# Altium footprint library Resonator filter design.PcbLib: 13 footprints
Each footprint in its own frame and in the unit in brackets; x right, y up, seen from the top. Pads: shape width x height; smd on the part's side, far side on the other; paste and mask are expansions set on the pad; w line width, h text height; cw(c..) or ccw(c..) is an arc to the next point about the centre after c.
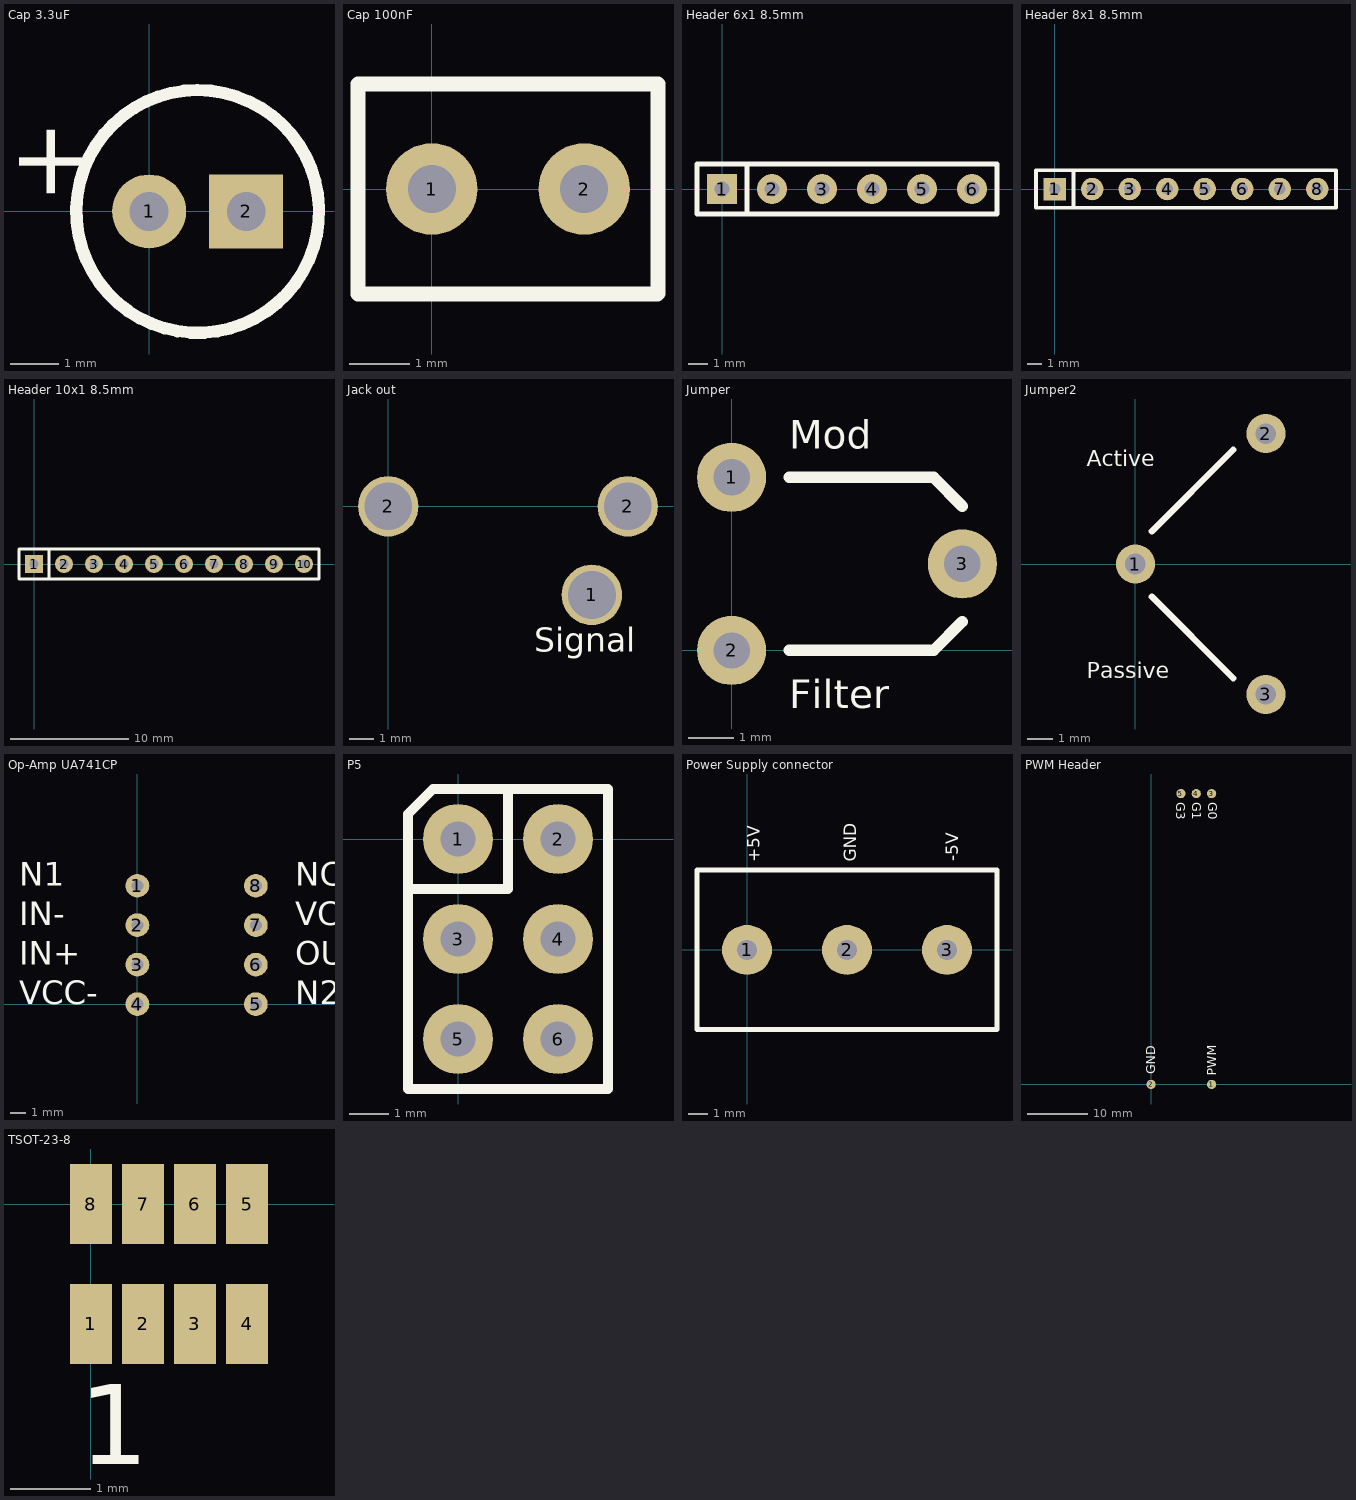
[diagram p0: the footprints below, top view; thin cyan lines are the x and y axes]

## Cap 3.3uF [mil]
pads (2):
  round 60 hole 31.5: 1(0,0)
  rect 60x60 hole 31.5: 2(78.74,0)
Top Overlay:
  lines w10: 137.77,2.34 cw(c39.37,0) 137.75,3.12
  text "+" at -105.51,74.8 h60

## Cap 100nF [mil]
pads (2):
  round 60 hole 31.5: 1(0,0) 2(100,0)
Top Overlay:
  lines w10: 148.03,-68.9 -48.43,-68.9 -48.43,0 -48.43,68.9 148.43,68.9 148.43,0 148.43,-68.5

## Header 6x1 8.5mm [mil] "Stackable 6 pin header"
pads (6):
  rect 60x60 hole 30: 1(0,0)
  round 60 hole 30: 2(100,0) 3(200,0) 4(300,0) 5(400,0) 6(500,0)
Top Overlay:
  lines w10: 50,-50 -50,-50 -50,0 -50,50 50,50 ; 50,-50 50,50 ; 50,-50 550,-50 550,50 50,50
3D body "SIL_Socket06.stp": height 334.65, standoff -584.65, extent -49.99,-49.99 550.01,50.01

## Header 8x1 8.5mm [mil] "Stackable 8 pin header"
pads (8):
  rect 60x60 hole 30: 1(0,0)
  round 60 hole 30: 2(100,0) 3(200,0) 4(300,0) 5(400,0) 6(500,0) 7(600,0) 8(700,0)
Top Overlay:
  lines w10: 50,-50 50,50 ; -50,-50 -50,50 750,50 750,-50 -50,-50
3D body "SIL_Socket08_.stp": height 334.65, standoff -584.65, extent -50,-49.99 750,50.01

## Header 10x1 8.5mm [mil] "Stackable 10 pin header"
pads (10):
  rect 60x60 hole 30: 1(0,0)
  round 60 hole 30: 2(100,0) 3(200,0) 4(300,0) 5(400,0) 6(500,0) 7(600,0) 8(700,0) 9(800,0) 10(900,0)
Top Overlay:
  lines w10: 50,-50 50,50 ; 50,-50 950,-50 950,50 50,50 ; 50,-50 -50,-50 -50,50 50,50
3D body "SIL_Socket10.stp": height 334.65, standoff -584.65, extent -50,-50 950,50

## Jack out [mm]
pads (3):
  round 2.524 hole 2: 1(8.5,-3.7) 2(0,0) 2(10,0)
Top Overlay:
  text "Signal" at 6.09,-6.08 h1

## Jumper [mil]
pads (3):
  round 60 hole 31.5: 1(0,150) 2(0,0) 3(200,75)
Top Overlay:
  lines w10: 50,0 175,0 200,25 ; 50,150 175,150 200,125
  text "Mod" at 50,175 h24.8
  text "Filter" at 50,-50 h24.8

## Jumper2 [mil]
pads (3):
  round 60 hole 31.5: 1(0,0) 2(200,200) 3(200,-200)
Top Overlay:
  lines w10: 25,-50 150,-175 ; 25,50 150,175
  text "Active" at -75,150 h24.8
  text "Passive" at -75,-175 h24.8

## Op-Amp UA741CP [mil]
pads (8):
  round 60 hole 30: 1(0,300) 2(0,200) 3(0,100) 4(0,0) 5(300,0) 6(300,100) 7(300,200) 8(300,300)
Top Overlay:
  text "N1" at -300,300 h60
  text "IN-" at -300,200 h60
  text "IN+" at -300,100 h60
  text "VCC-" at -300,0 h60
  text "N2" at 400,0 h60
  text "OUT" at 400,100 h60
  text "VCC+" at 400,200 h60
  text "NC" at 400,300 h60

## P5 [mil]
pads (6):
  round 70 hole 35.43: 1(0,0) 2(100,0) 3(0,-100) 4(100,-100) 5(0,-200) 6(100,-200)
Top Overlay:
  lines w10: -50,-50 50,-50 50,50 ; -50,-250 150,-250 150,50 -25,50 -50,25 -50,-250
3D body "ICSP.stp": height 484.65, standoff -105.84, extent -49.99,-249.99 150.01,50.01

## Power Supply connector [mm]
pads (3):
  round 2.54 hole 1: 1(0,0) 2(5.08,0) 3(10.16,0)
Top Overlay:
  lines w0.254: 12.69,-4.03 -2.54,-4.03 -2.54,0 -2.54,4.05 12.7,4.05 12.7,0 12.7,-4.02
  text "+5V" at 0.64,4.46 h0.63
  text "GND" at 5.54,4.48 h0.63
  text "-5V" at 10.74,4.51 h0.63

## PWM Header [mil]
pads (5):
  round 60 all layers, no hole: 1(393.7,0) 2(0,0) 3(393.7,1889.76) 4(293.7,1889.76) 5(193.7,1889.76)
Top Overlay:
  text "G0" at 370.08,1834.65 h60
  text "G1" at 266.54,1834.65 h60
  text "G3" at 164.96,1834.65 h60
  text "PWM" at 424.02,54.72 h60
  text "GND" at 28.35,65.75 h60

## TSOT-23-8 [mm]
pads (8):
  rect 0.524x1 smd mask+0.08: 1(0,-1.5) 2(0.65,-1.5) 3(1.3,-1.5) 4(1.95,-1.5) 5(1.95,0) 6(1.3,0) 7(0.65,0) 8(0,0)
Top Overlay:
  text "1" at -0.15,-3.25 h1